# Altium schematic symbol library AH9247.Schlib: 1 symbol
Pins are listed as number, name and electrical type; pins without a type are passive.

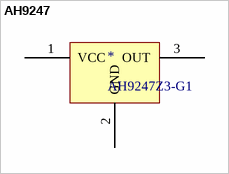
[diagram p0: symbol AH9247]

## AH9247
designator *, comment AH9247Z3-G1
TO-92S Magnetic Sensors RoHS; ComponentLink1Description: LCSC - Diodes Incorporated AH9247Z3-G1; ComponentLink1URL: https://lcsc.com/product-detail/Magnetic-Sensors_Diodes-Incorporated-AH9247Z3-G1_C442624.html; LCSC Part #: C442624; JLCPCB Part Type: unavailable
footprint TO92-AH9247
pins: 1 VCC, 2 GND, 3 OUT